# Altium footprint library NEOS_CAN.PcbLib: 30 footprints (part 1 of 2)
Each footprint in its own frame and in the unit in brackets; x right, y up, seen from the top. Pads: shape width x height; smd on the part's side, far side on the other; paste and mask are expansions set on the pad; w line width, h text height; cw(c..) or ccw(c..) is an arc to the next point about the centre after c.
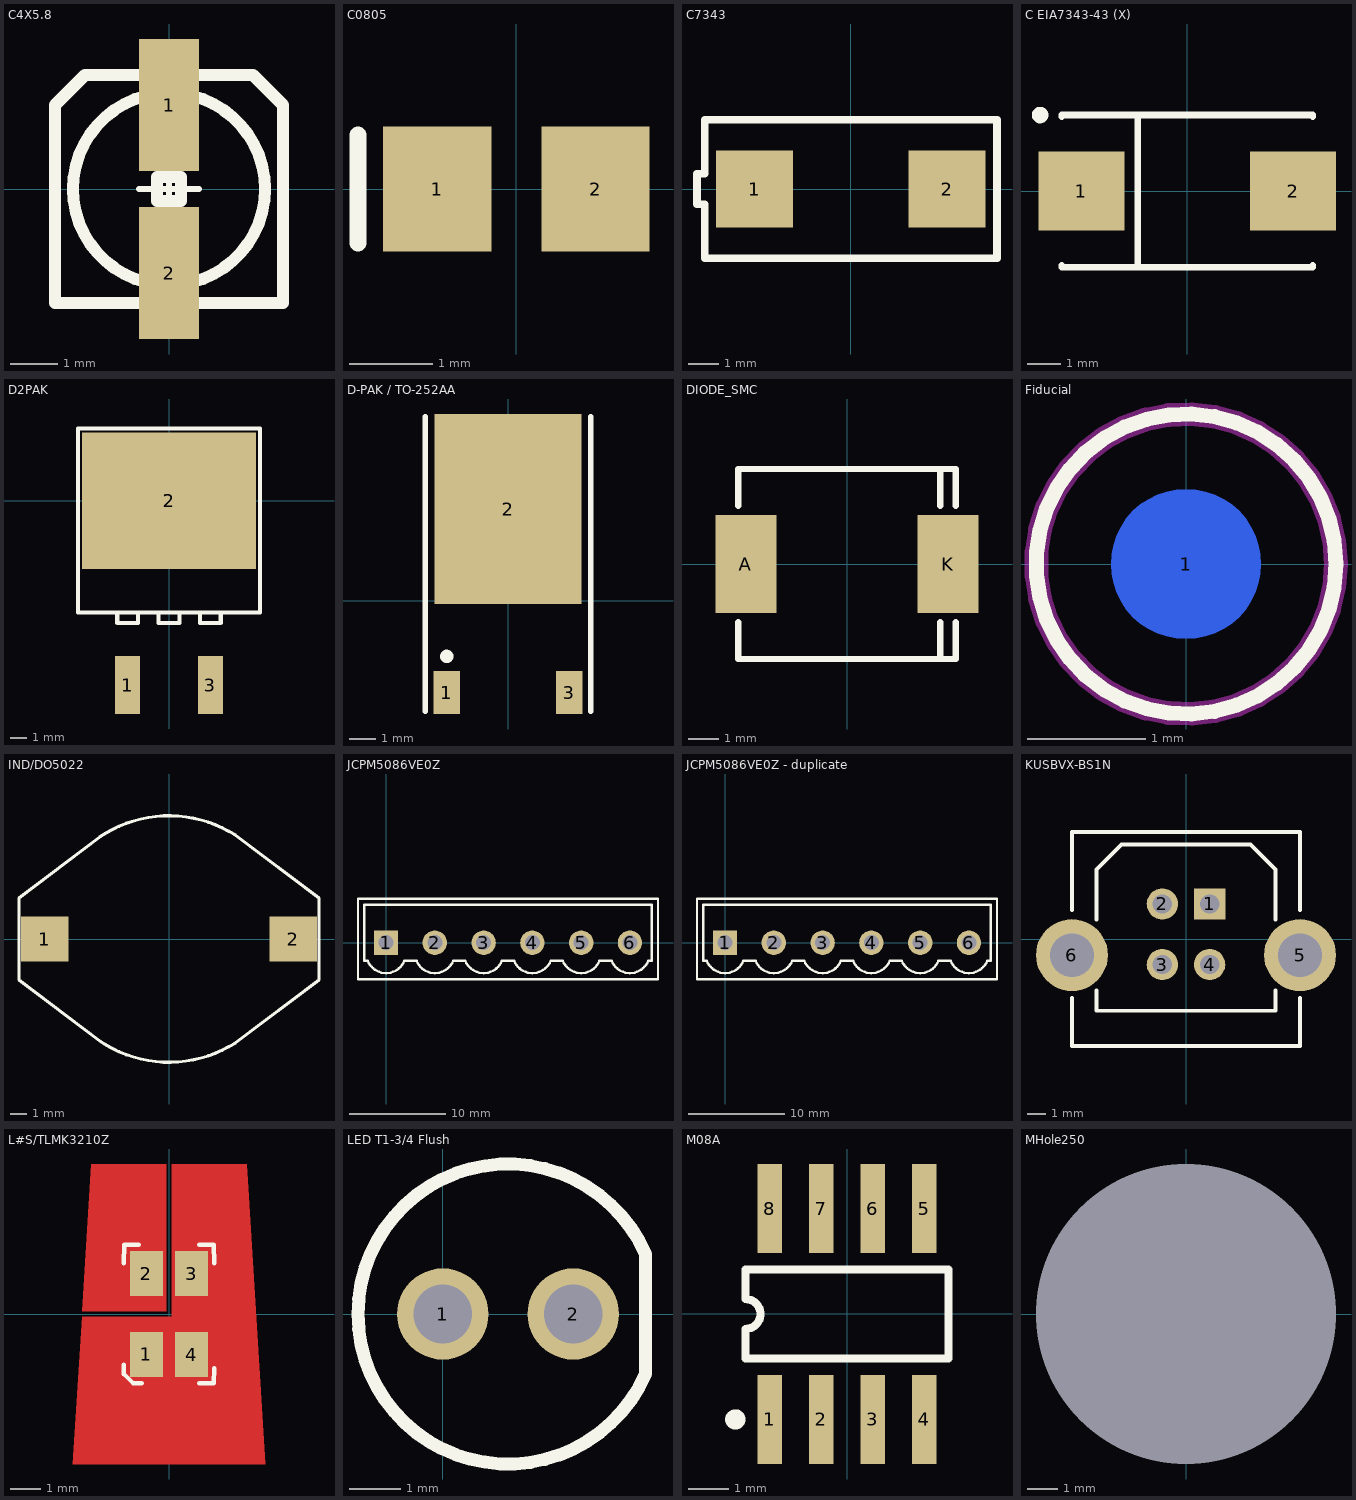
[diagram p0: the footprints below, top view; thin cyan lines are the x and y axes]

## C4X5.8 [mil]
pads (2):
  rect 50x110 smd: 1(0,70) 2(0,-70)
Top Overlay:
  circle w10: c0,0 r80
  lines w5: -25,0 25,0 ; 0,-25 0,25
  lines w10: -60,-95 60,-95 ; -60,95 60,95 ; -50,-95 -95,-95 -95,70 -70,95 -50,95 ; 50,-95 95,-95 95,70 70,95 50,95 ; -10,-10 10,-10 10,10 -10,10 -10,-10

## C0805 [mm] "Chip Capacitor; Body 2.0 x 1.2 mm (LxW typ)"
height 1.1
pads (2):
  rect 1.3x1.5 smd: 1(-0.95,0) 2(0.95,0)
Top Overlay:
  lines w0.2: -1.9,-0.65 -1.9,0.65

## C7343 [mm]
height 0.254
pads (2):
  rect 2.54x2.54 smd: 1(-3.175,0) 2(3.175,0)
Top Overlay:
  lines w0.254: -5.08,-0.508 -4.826,-0.508 -4.826,-2.286 4.826,-2.286 4.826,2.286 -4.826,2.286 -4.826,0.508 -5.08,0.508 -5.08,-0.508

## C EIA7343-43 (X) [mm] "Capacitor, SM Tantalum; Body 7.3 x 4.3 mm (LxW typ)"
height 4.3
pads (2):
  rect 2.6x2.4 smd: 1(-3.2,0) 2(3.2,0)
Top Overlay:
  circle w0.25: c-4.45,2.3 r0.125
  lines w0.2: -3.8,-2.25 -3.8,-2.3 3.8,-2.3 3.8,-2.25 ; -3.8,2.25 -3.8,2.3 3.8,2.3 3.8,2.25 ; -1.5,-2.3 -1.5,2.3

## D2PAK [mil]
height 57.09
pads (3):
  rect 60x140 smd: 1(-100,-445) 3(100,-445)
  rect 420x330 smd: 2(0,0)
Top Overlay:
  lines w5: -25,-270 -25,-295 25,-295 25,-270
  lines w10: -200,-270 200,-270 ; -220,-270 -125,-270 -125,-295 -75,-295 -75,-270 -25,-270 -25,-295 25,-295 25,-270 75,-270 75,-295 125,-295 125,-270 220,-270 220,175 -220,175 -220,-270

## D-PAK / TO-252AA [mm] "D-PAK/TO-252-AA; 3 Leads (1 Cropped); Body 10.4 (inc. leads) x 6.7 mm (LxW max)"
height 2.38
pads (3):
  rect 1x1.6 smd: 1(-2.285,-3.425) 3(2.285,-3.425)
  rect 5.5x7.1 smd: 2(0,3.425)
Top Overlay:
  circle w0.25: c-2.285,-2.075 r0.125
  lines w0.2: -3.085,-4.125 -3.085,6.875 ; 3.085,-4.125 3.085,6.875

## DIODE_SMC [mm] "Diode"
height 2.62
pads (2):
  rect 2x3.2 smd: A(-3.305,0) K(3.305,0)
Top Overlay:
  lines w0.203: -3.555,-1.906 -3.555,-3.11 3.555,-3.11 3.555,-1.906 ; -3.555,1.906 -3.555,3.11 3.555,3.11 3.555,1.906 ; 3.048,-3.11 3.048,-1.905 ; 3.048,1.905 3.048,3.11

## Fiducial [mm]
height 0.025
pads (1):
  round 1.27 smd far side: 1(0,0)
Top Overlay:
  circle w0.127: c0,0 r1.27
Keep-Out Layer:
  circle w0.2: c0,0 r1.27

## IND/DO5022 [mil]
height 57.09
pads (2):
  rect 115x110 smd: 1(-302.5,0) 2(302.5,0)
Top Overlay:
  lines w8: -365,-100 -169.25,-247.7 ccw(c0,0) 161.83,-252.61 365,-100 365,100 161.83,252.61 ccw(c0,0) -169.12,247.79 -365,100 -365,-100

## JCPM5086VE0Z [mil] "ASI term strip header 6P 5.08mm Vert"
height 477.95
pads (6):
  rect 100x100 / inner round 100 / far side rect 100x100 hole 62: 1(0,0)
  round 100 hole 62: 2(200,0) 3(400,0) 4(600,0) 5(800,0) 6(1000,0)
Top Overlay:
  lines w10: -75,-75 -90,-75 -90,155 1090,155 1090,-75 1075,-75 ; -74.83,-75 ccw(c0,-44) 74.83,-75 ; 75,-75 125,-75 ; 125.17,-75 ccw(c200,-44) 274.83,-75 ; 275,-75 325,-75 ; 325.17,-75 ccw(c400,-44) 474.83,-75 ; 475,-75 525,-75 ; 525.17,-75 ccw(c600,-44) 674.83,-75 ; 675,-75 725,-75 ; 725.17,-75 ccw(c800,-44) 874.83,-75 ; 875,-75 925,-75 ; 925.17,-75 ccw(c1000,-44) 1074.83,-75 ; -115,-150 -115,180 1115,180 1115,-150 -115,-150

## JCPM5086VE0Z - duplicate [mil] "ASI term strip header 6P 5.08mm Vert"
height 477.95
pads (6):
  rect 100x100 / inner round 100 / far side rect 100x100 hole 62: 1(0,0)
  round 100 hole 62: 2(200,0) 3(400,0) 4(600,0) 5(800,0) 6(1000,0)
Top Overlay:
  lines w10: -75,-75 -90,-75 -90,155 1090,155 1090,-75 1075,-75 ; -74.83,-75 ccw(c0,-44) 74.83,-75 ; 75,-75 125,-75 ; 125.17,-75 ccw(c200,-44) 274.83,-75 ; 275,-75 325,-75 ; 325.17,-75 ccw(c400,-44) 474.83,-75 ; 475,-75 525,-75 ; 525.17,-75 ccw(c600,-44) 674.83,-75 ; 675,-75 725,-75 ; 725.17,-75 ccw(c800,-44) 874.83,-75 ; 875,-75 925,-75 ; 925.17,-75 ccw(c1000,-44) 1074.83,-75 ; -115,-150 -115,180 1115,180 1115,-150 -115,-150

## KUSBVX-BS1N [mm] "USB Type B PCB"
height 16
pads (6):
  rect 1.651x1.651 hole 1.016: 1(1.25,1.85)
  round 1.651 hole 1.016: 2(-1.25,1.85) 3(-1.25,-1.35) 4(1.25,-1.35)
  round 3.8 hole 2.3: 5(6.02,-0.85) 6(-6.02,-0.85)
Top Overlay:
  lines w0.203: -6.02,-3.12 -6.02,-5.65 6.02,-5.65 6.02,-3.12 ; -6.02,1.52 -6.02,5.65 6.02,5.65 6.02,1.52 ; -4.725,-2.725 -4.725,-3.79 4.725,-3.79 4.725,-2.725 ; -4.725,1.025 -4.725,3.665 -3.4,4.99 3.4,4.99 4.725,3.665 4.725,1.025

## L#S/TLMK3210Z [mm]
pads (4):
  rect 1.1x1.5 smd: 1(-0.75,-1.35) 2(-0.75,1.35) 3(0.75,1.35) 4(0.75,-1.35)
Top Layer:
  region: -2.9,-0.1 -3.2,-5 3.2,-5 2.6,5 0.1,5 0.1,-0.1
  region: -2.6,5 -0.1,5 -0.1,0.1 -2.9,0.1
Top Overlay:
  lines w0.15: -1.5,-1.7 -1.5,-2 -1.2,-2.3 -0.9,-2.3 ; -1.5,1.7 -1.5,2.3 -1,2.3 ; 1,-2.3 1.5,-2.3 1.5,-1.8 ; 1,2.3 1.5,2.3 1.5,1.7
Top Solder:
  region: -1.7,-0.1 -2.9,-0.1 -3.2,-5 3.2,-5 2.6,5 0.1,5 0.1,2.5 1.7,2.5 1.7,-2.5 -1.7,-2.5
  region: -1.7,0.1 -1.7,2.5 -0.1,2.5 -0.1,5 -2.6,5 -2.9,0.1

## LED T1-3/4 Flush [mil]
height 340
pads (2):
  round 70 hole 45: 1(0,0) 2(100,0)
Top Overlay:
  lines w10: 155.46,-45.85 cw(c50,0) 155.46,45.85 155.46,-45.85

## M08A [mm] "Small Outline; 8 Leads; Body Width 3.9 mm; Pitch 1.27 mm"
height 1.76
pads (8):
  rect 0.6x2.2 smd: 1(-1.905,-2.6) 2(-0.635,-2.6) 3(0.635,-2.6) 4(1.905,-2.6) 5(1.905,2.6) 6(0.635,2.6) 7(-0.635,2.6) 8(-1.905,2.6)
Top Overlay:
  circle w0.25: c-2.755,-2.6 r0.125
  lines w0.2: -2.5,-1.1 2.5,-1.1 2.5,1.1 -2.5,1.1 -2.5,0.367 cw(c-2.5,0) -2.5,-0.367 -2.5,-1.1

## MHole250 [mil] "Mounting hole for .25\" screw"
height 98.42
pads (1):
  round 0 hole 390 unplated: 0(0,0)
Top Overlay:
  circle w8: c0,0 r188
Keep-Out Layer:
  circle w8: c0,0 r188